# EAGLE library part LORA-0100-1 (library PonLib)
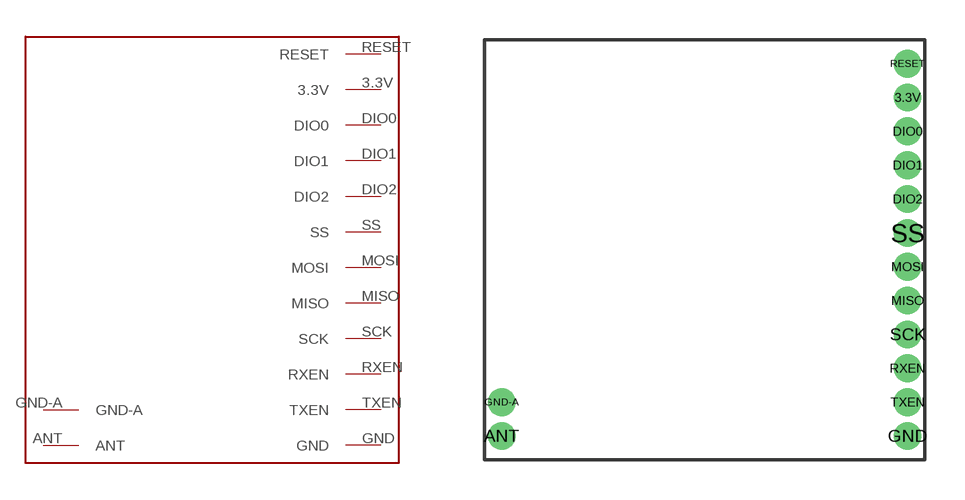
[diagram p27: symbol with the pads of LORA-0100-1; footprint LORA-0100-1]

Designator prefix -

## LORA-0100-1  [LORA-0100-1]
3.3V  3.3V
ANT  ANT
DIO0  DIO0
DIO1  DIO1
DIO2  DIO2
GND  GND
GND-A  GND-A
MISO  MISO
MOSI  MOSI
RESET  RESET
RXEN  RXEN
SCK  SCK
SS  SS
TXEN  TXEN

## Footprint LORA-0100-1 (pad centres in mm)
drill 0.533 pad 0.889: 3.3V 7.62,5.715; ANT -7.62,-6.985; DIO0 7.62,4.445; DIO1 7.62,3.175; DIO2 7.62,1.905; GND 7.62,-6.985; GND-A -7.62,-5.715; MISO 7.62,-1.905; MOSI 7.62,-0.635; RESET 7.62,6.985; RXEN 7.62,-4.445; SCK 7.62,-3.175; SS 7.62,0.635; TXEN 7.62,-5.715